# EAGLE library part DS12C887 (library chuong)
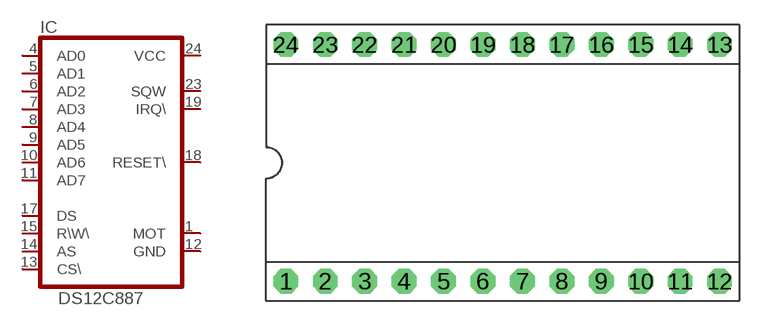
[diagram p6: symbol with the pads of DIL-24S; footprint DIL-24S]

Designator prefix IC

## DS12C887  [DIL-24S]
1  MOT  out
4  AD0  out
5  AD1  out
6  AD2  out
7  AD3  out
8  AD4  out
9  AD5  out
10  AD6  out
11  AD7  out
12  GND  in
13  CS\  out
14  AS  out
15  R\W\  out
17  DS  out
18  RESET\  out
19  IRQ\  out
23  SQW  out
24  VCC  in

## Footprint DIL-24S (pad centres in mm)
drill 0.61 pad 1.6 octagon: 1 -13.97,-7.62; 2 -11.43,-7.62; 3 -8.89,-7.62; 4 -6.35,-7.62; 5 -3.81,-7.62; 6 -1.27,-7.62; 7 1.27,-7.62; 8 3.81,-7.62; 9 6.35,-7.62; 10 8.89,-7.62; 11 11.43,-7.62; 12 13.97,-7.62; 13 13.97,7.62; 14 11.43,7.62; 15 8.89,7.62; 16 6.35,7.62; 17 3.81,7.62; 18 1.27,7.62; 19 -1.27,7.62; 20 -3.81,7.62; 21 -6.35,7.62; 22 -8.89,7.62; 23 -11.43,7.62; 24 -13.97,7.62